# Altium footprint library acmelux-fpc.PcbLib: 1 footprints
Each footprint in its own frame and in the unit in brackets; x right, y up, seen from the top. Pads: shape width x height; smd on the part's side, far side on the other; paste and mask are expansions set on the pad; w line width, h text height; cw(c..) or ccw(c..) is an arc to the next point about the centre after c.
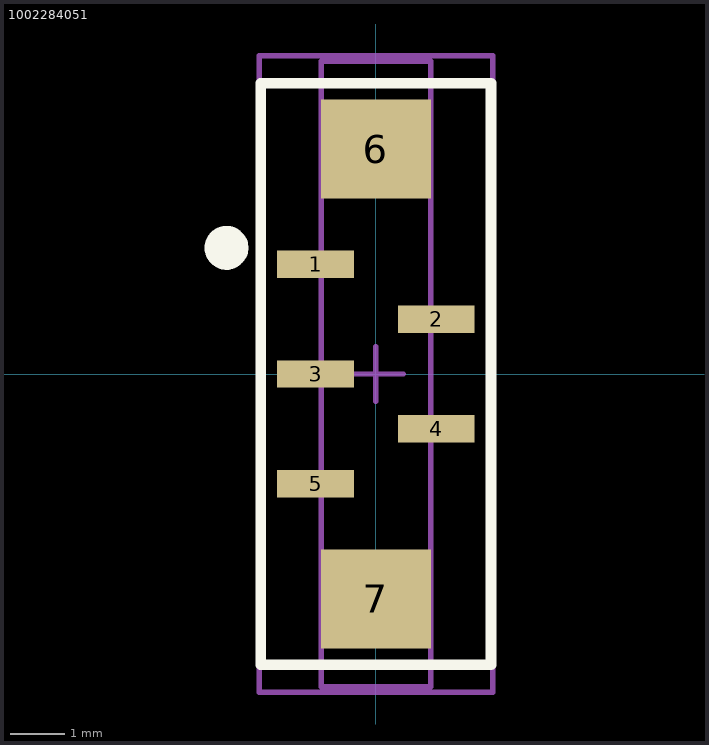
[diagram p0: the footprint, top view; thin cyan lines are the x and y axes]

## 1002284051 [mm] "1mm pitch Connector for FPC - 5 contacts"
height 5.4
pads (7):
  rect 1.4x0.5 smd: 1(-1.1,2) 2(1.1,1) 3(-1.1,0) 4(1.1,-1) 5(-1.1,-2)
  rect 2x1.8 smd: 6(0,4.1) 7(0,-4.1)
Top Overlay:
  circle w0.4: c-2.725,2.3 r0.2
  lines w0.2: -2.1,-5.3 -2.1,5.3 2.1,5.3 2.1,-5.3 -2.1,-5.3
Mechanical 13:
  lines w0.1: -0.5,0 0.5,0 ; 0,-0.5 0,0.5 ; -1,-5.7 1,-5.7 1,5.7 -1,5.7 -1,-5.7
Mechanical 15:
  lines w0.1: -2.125,-5.8 2.125,-5.8 2.125,5.8 -2.125,5.8 -2.125,-5.8
  text ".Designator" at 0.2,-2.3 h0.5
3D body: height 6.41, standoff 0.02, extent -1.5,-5.7 1.5,5.7